# EAGLE library part 691300700024 (library WR-TBL Pluggable Connector)
WR-TBL Serie 300 - 5.00 mm Pin Header KIND PROPERTIES Pitch 5 mm MATERIAL PROPERTIES Insulator Material PA66 Insulator Flammability Rating UL94 V-0 Contact Material Brass Contact Plating Tin GENERAL INFORMATION Operating Temperature -40 up to +105 °C Compliance Lead free / RoHS ELECTRICAL PROPERTIES IR UL 15 A IR VDE 12 A Working Voltage [UL] 300 V (AC) Working Voltage [VDE] 300 V (AC) Withstanding Voltage [UL] 1600 V (AC) Withstanding Voltage [VDE] 2500 V (AC) Contact Resistance [UL] 20 mΩ Contact Resistance [VDE] 20 mΩ CERTIFICATION UL Approval E315414 <https://www.we-online.com/catalog/media/o33250v209%20Family_WR-TBL_691300700024.jpg> Details see: https://www.we-online.com/catalog/en/TBL_5_00_300_PIN_HEADER_691300700024/ Updated by Ella Wu 2022-07-25 2022(C) Wurth Elektronik
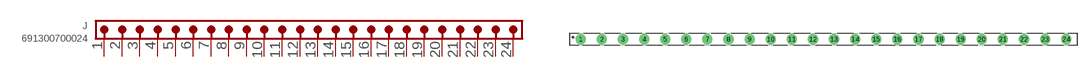
[diagram p154: symbol with the pads of 691300700024; footprint 691300700024]

Designator prefix J

## 691300700024 (DATASHEET-URL: https://www.we-online.com/redexpert/spec/691300700024?ae; IR-UL: 15A; IR-VDE: 12A; MOUNT: THT; PART-NUMBER: 691300700024; PINS: 24; PITCH: 5mm; TYPE: Vertical; VALUE: 691300700024; WORKING-VOLTAGE-UL: 300V (AC); WORKING-VOLTAGE-VDE: 300V (AC))  [691300700024]
1  1  pas
2  2  pas
3  3  pas
4  4  pas
5  5  pas
6  6  pas
7  7  pas
8  8  pas
9  9  pas
10  10  pas
11  11  pas
12  12  pas
13  13  pas
14  14  pas
15  15  pas
16  16  pas
17  17  pas
18  18  pas
19  19  pas
20  20  pas
21  21  pas
22  22  pas
23  23  pas
24  24  pas

## Footprint 691300700024 (pad centres in mm)
WR-TBL Serie 300 - 5.00 mm Pin Header Max Height = 8.95mm , Pitch 5mm , 24pins
drill 1.6: 1 -57.5,0; 2 -52.5,0; 3 -47.5,0; 4 -42.5,0; 5 -37.5,0; 6 -32.5,0; 7 -27.5,0; 8 -22.5,0; 9 -17.5,0; 10 -12.5,0; 11 -7.5,0; 12 -2.5,0; 13 2.5,0; 14 7.5,0; 15 12.5,0; 16 17.5,0; 17 22.5,0; 18 27.5,0; 19 32.5,0; 20 37.5,0; 21 42.5,0; 22 47.5,0; 23 52.5,0; 24 57.5,0